# Altium footprint library cb_v2.PcbLib: 18 footprints (part 1 of 2)
Each footprint in its own frame and in the unit in brackets; x right, y up, seen from the top. Pads: shape width x height; smd on the part's side, far side on the other; paste and mask are expansions set on the pad; w line width, h text height; cw(c..) or ccw(c..) is an arc to the next point about the centre after c.
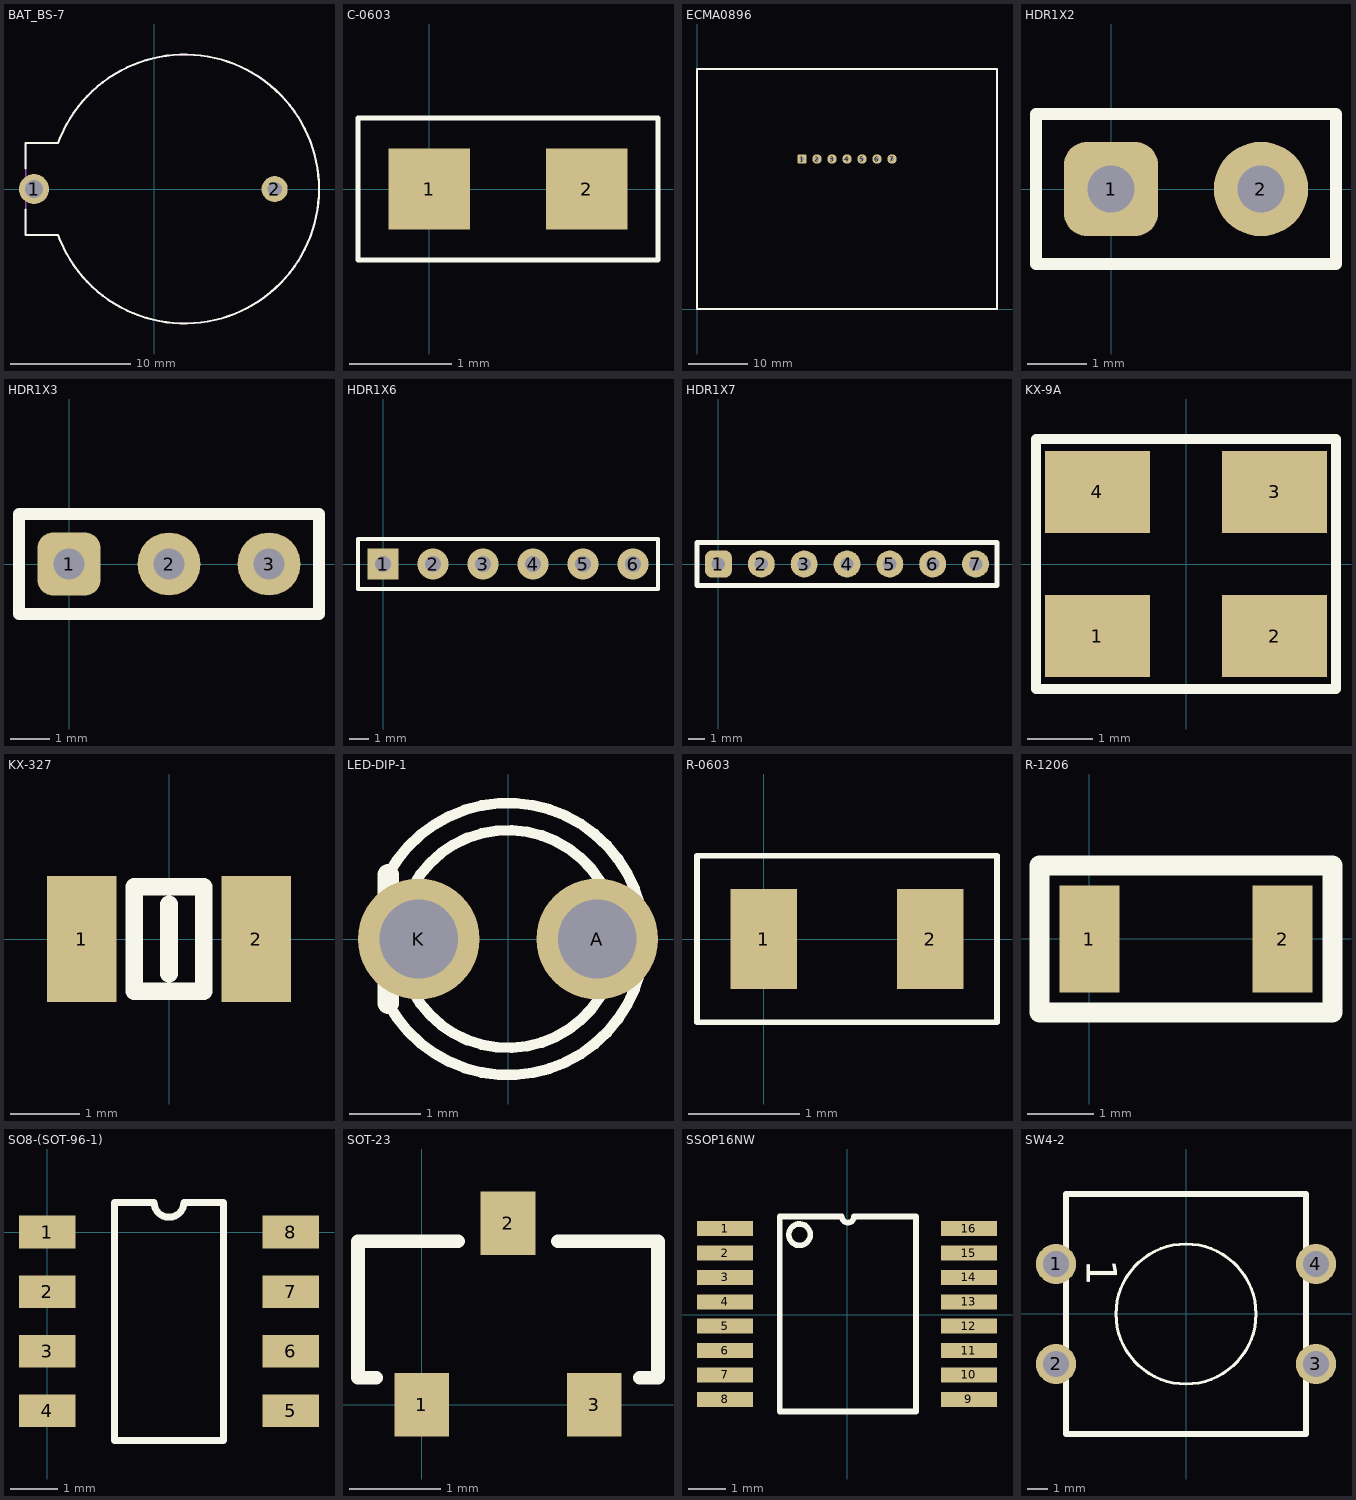
[diagram p0: the footprints below, top view; thin cyan lines are the x and y axes]

## BAT_BS-7 [mm] "Memory Protection Devices CR2032 battery holder"
height 9.5
pads (2):
  round 2.5 hole 1.5: 1(-10,0)
  round 2.17 hole 1.181: 2(10,0)
Top Overlay:
  lines w0.178: -10.7,-3.82 -10.7,-1.7 ; -10.7,-3.8 -7.999,-3.8 ccw(c2.508,0.01) 13.684,0.01 ccw(c2.508,0.01) -7.999,3.82 -10.7,3.82 -10.7,1.7
Mechanical 5:
  lines w0.127: -10.7,-3.8 -7.999,-3.8 ccw(c2.508,0.01) 13.684,0.01 ccw(c2.508,0.01) -7.999,3.82 -10.7,3.82 -10.7,-3.8
  text ".Designator" at -4.064,-0.508 h1.02
3D body "BAT_BS-7.stp": height 9.02, standoff -3.59, extent -10.686,-11.174 13.698,11.174

## C-0603 [mm]
pads (2):
  rect 0.8x0.8 smd: 1(0,0) 2(1.55,0)
Top Overlay:
  lines w0.05: -0.7,-0.7 -0.7,0 -0.7,0.7 2.25,0.7 2.25,-0.7 -0.7,-0.7

## ECMA0896 [mm]
pads (7):
  rrect50% 1.6x1.6 hole 0.7: 1(17.78,25.4)
  round 1.6 hole 0.7: 2(20.32,25.4) 3(22.86,25.4) 4(25.4,25.4) 5(27.94,25.4) 6(30.48,25.4) 7(33.02,25.4)
Top Overlay:
  lines w0.3: 0,0 19.812,0 0,0 ; 0,0 50.8,0 50.8,40.64 0,40.64 0,0

## HDR1X2 [mm] "Connector; Header; 2 Position"
pads (2):
  rrect50% 1.6x1.6 hole 0.8: 1(0,0)
  round 1.6 hole 0.8: 2(2.54,0)
Top Overlay:
  lines w0.2: -1.27,-1.27 -1.27,1.27 3.81,1.27 3.81,-1.27 -1.27,-1.27

## HDR1X3 [mm] "Connector; Header; 3 Position"
pads (3):
  rrect50% 1.6x1.6 hole 0.8: 1(0,0)
  round 1.6 hole 0.8: 2(2.54,0) 3(5.08,0)
Top Overlay:
  lines w0.3: -1.27,-1.27 -1.27,1.27 6.35,1.27 6.35,-1.27 -1.27,-1.27

## HDR1X6 [mm] "Connector; Header; 6 Position"
pads (6):
  rect 1.6x1.6 hole 0.8: 1(0,0)
  round 1.6 hole 0.8: 2(2.54,0) 3(5.08,0) 4(7.62,0) 5(10.16,0) 6(12.7,0)
Top Overlay:
  lines w0.2: -1.27,-1.27 13.97,-1.27 13.97,1.27 -1.27,1.27 -1.27,-1.27

## HDR1X7 [mm] "Connector; Header; 7 Position"
pads (7):
  rrect50% 1.6x1.6 hole 0.8: 1(0,0)
  round 1.6 hole 0.8: 2(2.54,0) 3(5.08,0) 4(7.62,0) 5(10.16,0) 6(12.7,0) 7(15.24,0)
Top Overlay:
  lines w0.3: -1.27,-1.27 16.51,-1.27 16.51,1.27 -1.27,1.27 -1.27,-1.27

## KX-9A [mm]
pads (4):
  rect 1.6x1.25 smd: 1(-1.35,-1.1) 2(1.35,-1.1) 3(1.35,1.1) 4(-1.35,1.1)
Top Overlay:
  lines w0.15: -2.286,-1.905 2.286,-1.905 2.286,1.905 -2.286,1.905 -2.286,-1.905

## KX-327 [mm]
pads (2):
  rect 1x1.8 smd: 1(-1.25,0) 2(1.25,0)
Top Overlay:
  lines w0.254: 0,-0.5 0,0.5 ; -0.5,-0.75 0.5,-0.75 0.5,0.75 -0.5,0.75 -0.5,-0.75

## LED-DIP-1 [mm]
pads (2):
  round 1.7 hole 1.1: A(1.25,0) K(-1.25,0)
Top Overlay:
  circle w0.15: c0,0 r1.524
  lines w0.15: -1.678,-0.902 ccw(c0,0) -1.678,0.902
  lines w0.3: -1.678,-0.902 -1.678,0.902

## R-0603 [mm]
pads (2):
  rect 0.6x0.9 smd: 1(0,0) 2(1.5,0)
Top Overlay:
  lines w0.05: -0.6,-0.75 -0.6,0 -0.6,0.75 2.1,0.75 2.1,-0.75 -0.6,-0.75

## R-1206 [mm]
pads (2):
  rect 0.9x1.6 smd: 1(0,0) 2(2.9,0)
Top Overlay:
  lines w0.3: -0.75,-1.1 -0.75,0 -0.75,1.1 3.65,1.1 3.65,-1.1 -0.75,-1.1

## SO8-(SOT-96-1) [mm]
pads (8):
  rect 1.2x0.7 smd: 1(0,0) 2(0,-1.27) 3(0,-2.54) 4(0,-3.81) 5(5.2,-3.81) 6(5.2,-2.54) 7(5.2,-1.27) 8(5.2,0)
Top Overlay:
  lines w0.15: 1.435,-4.445 3.765,-4.445 3.765,0.635 2.917,0.635 cw(c2.6,0.635) 2.282,0.635 1.435,0.635 1.435,-4.445

## SOT-23 [mm]
pads (3):
  rect 0.6x0.7 smd: 1(0,0) 2(0.95,2) 3(1.9,0)
Top Overlay:
  lines w0.15: -0.5,0.3 -0.7,0.3 -0.7,1.8 0.4,1.8 ; 1.5,1.8 2.6,1.8 2.6,0.3 2.4,0.3

## SSOP16NW [mm]
pads (16):
  rect 1.5x0.4 smd: 1(-3.25,2.3) 2(-3.25,1.65) 3(-3.25,1) 4(-3.25,0.35) 5(-3.25,-0.3) 6(-3.25,-0.95) 7(-3.25,-1.6) 8(-3.25,-2.25) 9(3.25,-2.25) 10(3.25,-1.6) 11(3.25,-0.95) 12(3.25,-0.3) 13(3.25,0.35) 14(3.25,1) 15(3.25,1.65) 16(3.25,2.3)
Top Overlay:
  circle w0.15: c-1.266,2.14 r0.286
  lines w0.15: -1.79,-2.575 -1.79,2.625 -0.138,2.625 ccw(c0.025,2.625) 0.187,2.625 1.84,2.625 1.84,-2.575 -1.79,-2.575

## SW4-2 [mm]
pads (4):
  round 2 hole 1.3: 1(-6.5,2.5) 2(-6.5,-2.5) 3(6.5,-2.5) 4(6.5,2.5)
Top Overlay:
  circle w0.15: c0,0 r3.5
  lines w0.3: -6,-6 -6,6 6,6 6,-6 -6,-6
  text "1" at -4.95,2.74 h1.52